# Altium footprint library Clate_Charger.PcbLib: 12 footprints
Each footprint in its own frame and in the unit in brackets; x right, y up, seen from the top. Pads: shape width x height; smd on the part's side, far side on the other; paste and mask are expansions set on the pad; w line width, h text height; cw(c..) or ccw(c..) is an arc to the next point about the centre after c.
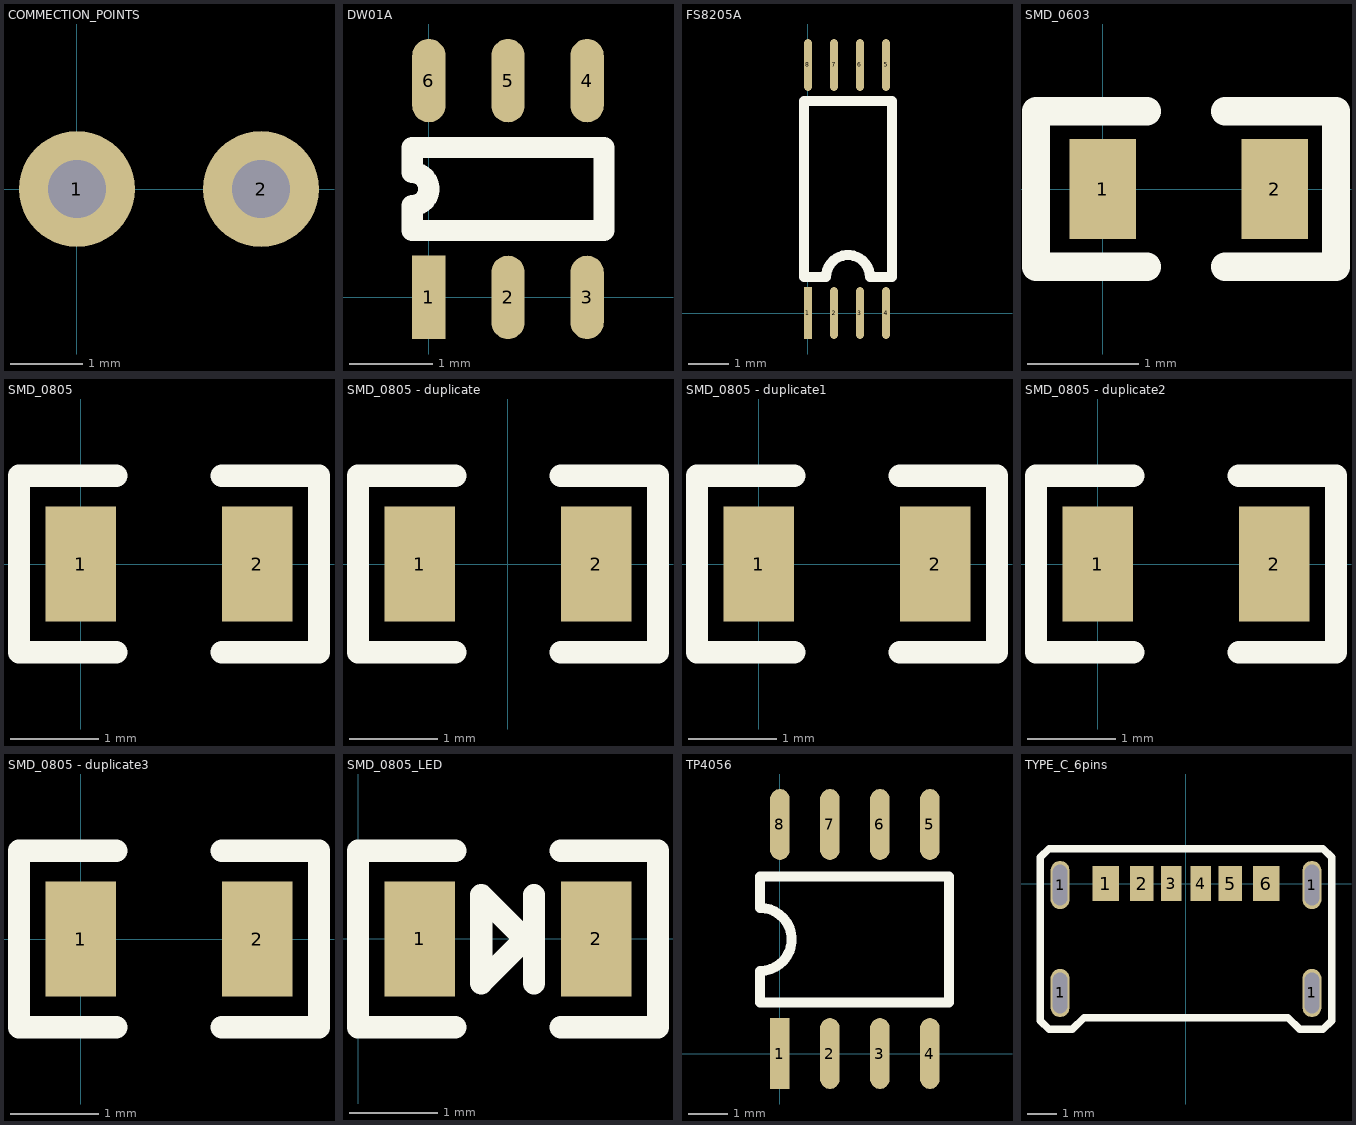
[diagram p0: the footprints below, top view; thin cyan lines are the x and y axes]

## COMMECTION_POINTS [mm]
pads (2):
  round 1.6 hole 0.8: 1(0,0) 2(2.54,0)

## DW01A [mm]
pads (6):
  rect 0.4x1 smd: 1(0,0)
  oval 0.4x1 smd: 2(0.95,0) 3(1.9,0) 4(1.9,2.6) 5(0.95,2.6) 6(0,2.6)
Top Overlay:
  lines w0.254: -0.2,0.8 -0.2,1.1 ccw(c-0.2,1.3) -0.2,1.5 -0.2,1.8 2.1,1.8 2.1,0.8 -0.2,0.8
3D body "DW01A.stp": height 1.2, standoff 0, extent -0.5,-0.1 2.4,2.7

## FS8205A [mm]
pads (8):
  rect 0.2x1.3 smd: 1(0,0)
  oval 0.2x1.3 smd: 2(0.65,0) 3(1.3,0) 4(1.95,0) 5(1.95,6.2) 6(1.3,6.2) 7(0.65,6.2) 8(0,6.2)
Top Overlay:
  lines w0.254: -0.1,0.9 0.45,0.9 cw(c1,0.9) 1.55,0.9 2.1,0.9 2.1,5.3 -0.1,5.3 -0.1,0.9
3D body "FS8205A.stp": height 1.1, standoff 0, extent -0.501,-0.083 2.434,6.317

## SMD_0603 [mm]
height 0.45
pads (2):
  rect 0.6x0.9 smd: 1(0,0) 2(1.55,0)
Top Overlay:
  lines w0.254: 0.4,-0.7 -0.6,-0.7 -0.6,0.7 0.4,0.7 ; 1.1,-0.7 2.1,-0.7 2.1,0.7 1.1,0.7

## SMD_0805 [mm]
pads (2):
  rect 0.8x1.3 smd: 1(0,0) 2(2,0)
Top Overlay:
  lines w0.254: 0.4,-1 -0.7,-1 -0.7,1 0.4,1 ; 1.6,-1 2.7,-1 2.7,1 1.6,1
3D body "RES_SMD_0805_1k.stp": height 0.51, standoff 0, extent 0.032,-0.623 2.032,0.627

## SMD_0805 - duplicate [mm]
pads (2):
  rect 0.8x1.3 smd: 1(-1,0) 2(1,0)
Top Overlay:
  lines w0.254: -0.6,-1 -1.7,-1 -1.7,1 -0.6,1 ; 0.6,-1 1.7,-1 1.7,1 0.6,1
3D body "RES_SMD_0805_1k2.stp": height 0.51, standoff 0, extent -0.977,-0.625 1.023,0.625

## SMD_0805 - duplicate1 [mm]
pads (2):
  rect 0.8x1.3 smd: 1(0,0) 2(2,0)
Top Overlay:
  lines w0.254: 0.4,-1 -0.7,-1 -0.7,1 0.4,1 ; 1.6,-1 2.7,-1 2.7,1 1.6,1
3D body "RES_SMD_0805_5.6k.stp": height 0.51, standoff 0, extent -0.009,-0.632 1.991,0.618

## SMD_0805 - duplicate2 [mm]
pads (2):
  rect 0.8x1.3 smd: 1(0,0) 2(2,0)
Top Overlay:
  lines w0.254: 0.4,-1 -0.7,-1 -0.7,1 0.4,1 ; 1.6,-1 2.7,-1 2.7,1 1.6,1
3D body "RES_SMD_0805_100.stp": height 0.51, standoff 0, extent 0.023,-0.628 2.023,0.622

## SMD_0805 - duplicate3 [mm]
pads (2):
  rect 0.8x1.3 smd: 1(0,0) 2(2,0)
Top Overlay:
  lines w0.254: 0.4,-1 -0.7,-1 -0.7,1 0.4,1 ; 1.6,-1 2.7,-1 2.7,1 1.6,1
3D body "SMD_CON_0.1u.stp": height 1.3, standoff 0, extent 0.033,-0.62 2.033,0.63

## SMD_0805_LED [mm]
pads (2):
  rect 0.8x1.3 smd: 1(0.7,0) 2(2.7,0)
Top Overlay:
  lines w0.254: 1.1,-1 0,-1 0,1 1.1,1 ; 1.995,-0.501 1.995,0.499 ; 2.3,-1 3.4,-1 3.4,1 2.3,1 ; 1.395,-0.501 1.895,-0.001 1.395,0.499 1.395,-0.501
3D body: height 0.8, standoff 0, extent 1.097,-0.645 2.297,0.655
3D body "0805_SMD_LED.stp": height 0.57, standoff 0, extent 0.703,-0.661 2.703,0.659

## TP4056 [mm]
pads (8):
  rect 0.5x1.8 smd: 1(0,0)
  oval 0.5x1.8 smd: 2(1.27,0) 3(2.54,0) 4(3.81,0) 5(3.81,5.82) 6(2.54,5.82) 7(1.27,5.82) 8(0,5.82)
Top Overlay:
  lines w0.254: -0.5,1.3 4.3,1.3 4.3,4.5 -0.5,4.5 -0.5,3.7 cw(c-0.5,2.9) -0.5,2.1 -0.5,1.3
3D body "TP4056.stp": height 1.74, standoff -0.12, extent -0.574,-0.967 4.426,6.834

## TYPE_C_6pins [mm]
height 3
pads (10):
  oval 0.65x1.65 hole 0.5 slot 1.4 at 90 deg: 1(-4.32,-3.75) 1(-4.32,-0.05) 1(4.32,-3.75) 1(4.32,-0.05)
  rect 0.9x1.2 smd: 1(-2.75,0) 6(2.75,0)
  rect 0.8x1.2 smd: 2(-1.52,0) 5(1.52,0)
  rect 0.7x1.2 smd: 3(-0.5,0) 4(0.5,0)
Top Overlay:
  lines w0.254: -5,-4.7 -4.7,-5 -3.9,-5 -3.5,-4.6 -1.95,-4.6 -0.975,-4.6 0.975,-4.6 1.95,-4.6 3.5,-4.6 3.9,-5 4.7,-5 5,-4.7 5,0.9 4.7,1.2 -4.7,1.2 -5,0.9 -5,-4.7
3D body "User Library-USB_Type_C_6pin.STEP": height 3.41, standoff -0.81, extent -4.454,-6.325 4.486,0.475